# Altium footprint library KeystoneContacts.PcbLib: 22 footprints (part 1 of 2)
Each footprint in its own frame and in the unit in brackets; x right, y up, seen from the top. Pads: shape width x height; smd on the part's side, far side on the other; paste and mask are expansions set on the pad; w line width, h text height; cw(c..) or ccw(c..) is an arc to the next point about the centre after c.
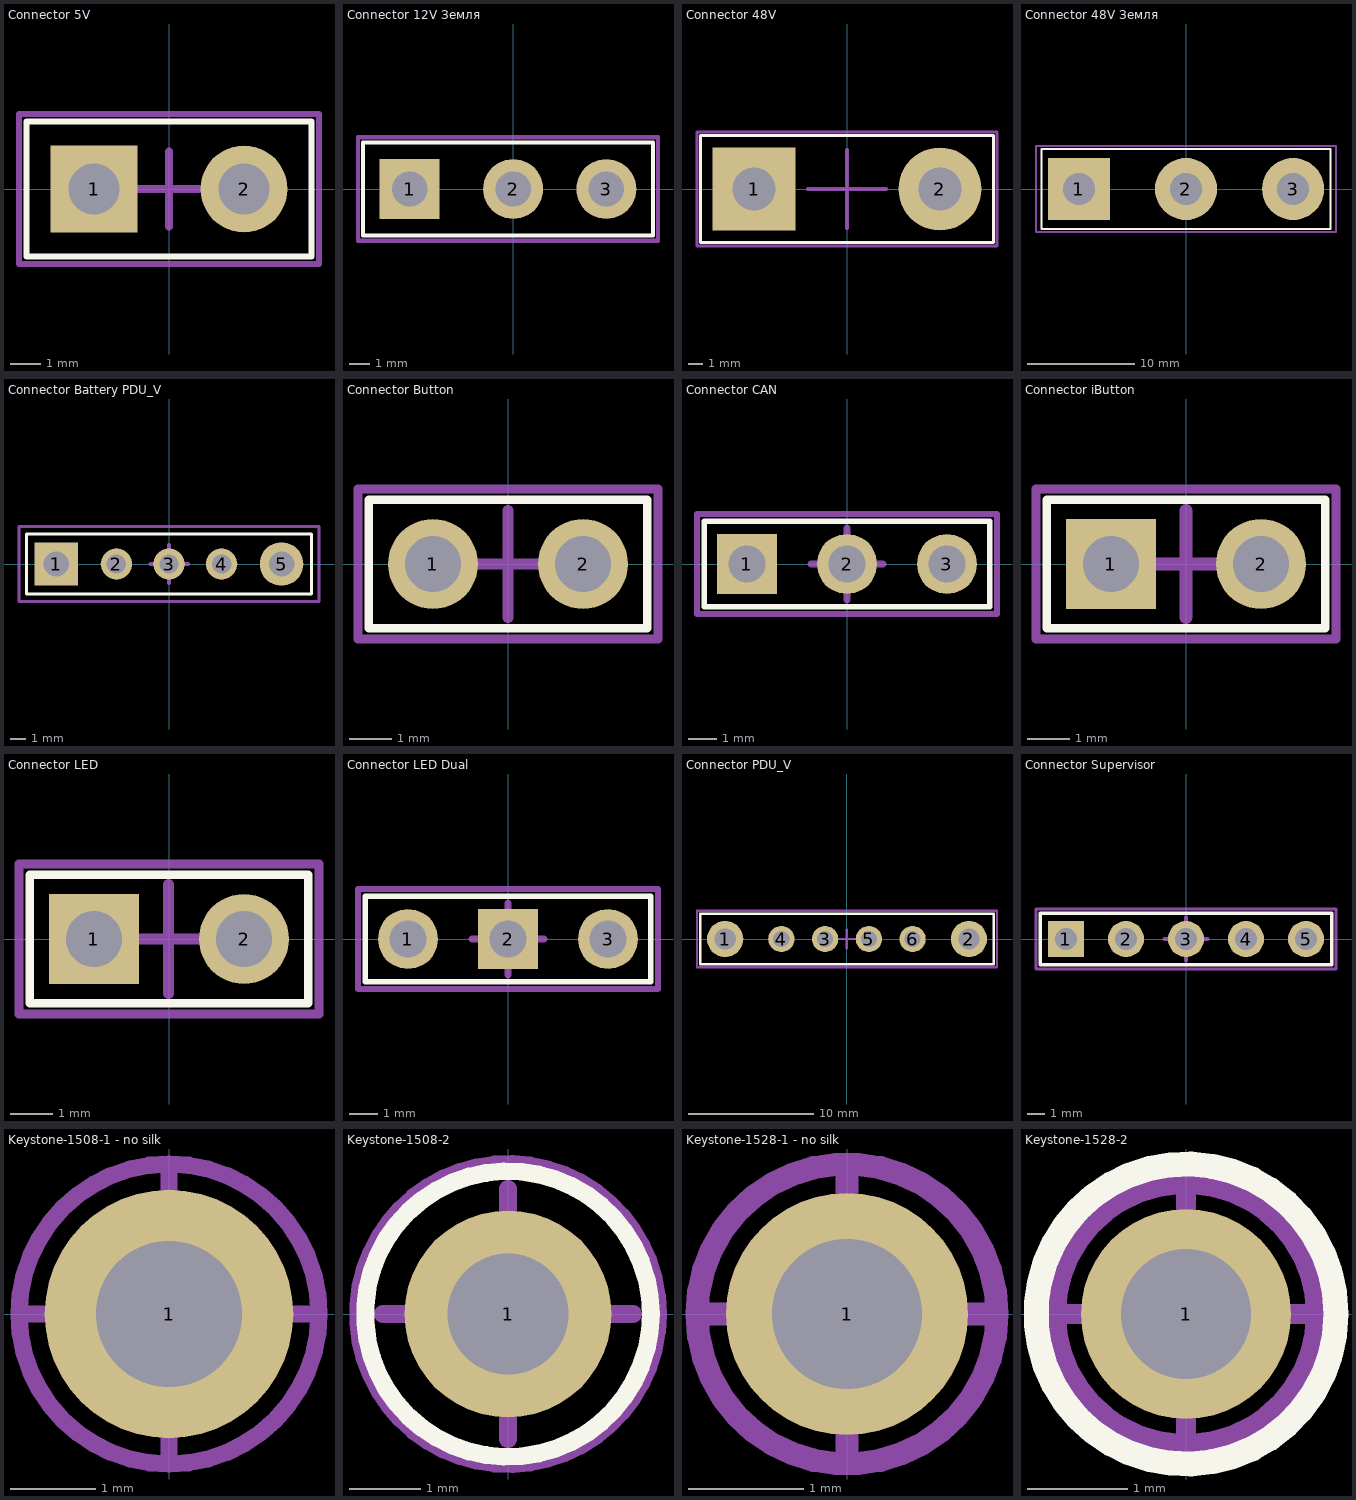
[diagram p0: the footprints below, top view; thin cyan lines are the x and y axes]

## Connector 5V [mm] "Контакты на плату турельные средние"
pads (2):
  rect 2.9x2.9 hole 1.7: 1(-2.5,0)
  round 2.9 hole 1.7: 2(2.5,0)
Top Overlay:
  lines w0.2: -4.75,-2.25 4.75,-2.25 4.75,2.25 -4.75,2.25 -4.75,-2.25
Mechanical 13:
  circle w0.1: c2.5,0 r1.195
  circle w0.1: c-2.5,0 r1.195
Mechanical 15:
  lines w0.2: -5,-2.5 -5,2.5 5,2.5 5,-2.5 -5,-2.5
  lines w0.254: -1.25,0 1.25,0 ; 0,-1.25 0,1.25
3D body "1508-2.stp": height 2.37, standoff -2.12, extent 1.305,-1.194 3.695,1.195
3D body "1508-2.stp": height 2.37, standoff -2.12, extent -3.695,-1.194 -1.305,1.195

## Connector 12V Земля [mm] "Контакты на плату турельные средние"
pads (3):
  rect 2.9x2.9 hole 1.7: 1(-5,0)
  round 2.9 hole 1.7: 2(0,0) 3(4.5,0)
Top Overlay:
  lines w0.2: -7.25,-2.25 -7.25,2.25 6.75,2.25 6.75,-2.25 -7.25,-2.25
Mechanical 13:
  circle w0.1: c-5,0 r1.195
  circle w0.1: c0,0 r1.195
  circle w0.1: c4.5,0 r1.195
Mechanical 15:
  lines w0.2: -7.5,-2.5 7,-2.5 7,2.5 -7.5,2.5 -7.5,-2.5
  lines w0.254: -1.25,0 1.25,0 ; 0,-1.25 0,1.25
3D body "1508-2.stp": height 2.37, standoff -2.12, extent -6.195,-1.194 -3.805,1.195
3D body "1508-2.stp": height 2.37, standoff -2.12, extent -1.195,-1.194 1.195,1.195
3D body "1508-2.stp": height 2.37, standoff -2.12, extent 3.305,-1.194 5.695,1.195

## Connector 48V [mm] "Контакты на плату турельные"
pads (2):
  rect 5.8x5.8 hole 3: 1(-6.5,0)
  round 5.8 hole 3: 2(6.5,0)
Top Overlay:
  lines w0.2: -10.25,-3.75 -10.25,3.75 10.25,3.75 10.25,-3.75 -10.25,-3.75
Mechanical 13:
  circle w0.1: c-6.5,0 r2.375
  circle w0.1: c6.5,0 r2.375
Mechanical 15:
  lines w0.2: -10.5,-4 -10.5,4 10.5,4 10.5,-4 -10.5,-4
  lines w0.254: -2.75,0 2.75,0 ; 0,-2.75 0,2.75
3D body "1532-2.stp": height 5.95, standoff -2.66, extent -8.875,-2.375 -4.125,2.375
3D body "1532-2.stp": height 5.95, standoff -2.66, extent 4.125,-2.375 8.875,2.375

## Connector 48V Земля [mm] "Контакты на плату турельные"
pads (3):
  rect 5.8x5.8 hole 3: 1(-10,0)
  round 5.8 hole 3: 2(0,0) 3(10,0)
Top Overlay:
  lines w0.2: -13.5,-3.75 -13.5,3.75 13.5,3.75 13.5,-3.75 -13.5,-3.75
Mechanical 13:
  circle w0.1: c-10,0 r2.375
  circle w0.1: c0,0 r2.375
  circle w0.1: c10,0 r2.375
Mechanical 15:
  lines w0.2: -14,-4 -14,4 14,4 14,-4 -14,-4
  lines w0.254: -2.75,0 2.75,0 ; 0,-2.75 0,2.75
3D body "1532-2.stp": height 5.95, standoff -2.66, extent -12.375,-2.375 -7.625,2.375
3D body "1532-2.stp": height 5.95, standoff -2.66, extent -2.375,-2.375 2.375,2.375
3D body "1532-2.stp": height 5.95, standoff -2.66, extent 7.625,-2.375 12.375,2.375

## Connector Battery PDU_V [mm] "Разъем батареи ПДУ-В"
pads (5):
  rect 2.9x2.9 hole 1.7: 1(-7.5,0)
  round 2.1 hole 1.3: 2(-3.5,0) 3(0,0) 4(3.5,0)
  round 2.9 hole 1.7: 5(7.5,0)
Top Overlay:
  lines w0.2: -9.5,-2 -9.5,2 9.5,2 9.5,-2 -9.5,-2
Mechanical 13:
  circle w0.1: c7.5,0 r1.195
  circle w0.1: c-7.5,0 r1.195
  circle w0.1: c0,0 r0.785
  circle w0.1: c3.5,0 r0.785
  circle w0.1: c-3.5,0 r0.785
Mechanical 15:
  lines w0.2: -10,-2.5 -10,2.5 10,2.5 10,-2.5 -10,-2.5
  lines w0.254: -1.242,0 1.27,0 ; 0,-1.27 0,1.27
3D body "1508-2.stp": height 2.37, standoff -2.12, extent 6.305,-1.194 8.695,1.195
3D body "1508-2.stp": height 2.37, standoff -2.12, extent -8.695,-1.194 -6.305,1.195
3D body "1528-2.stp": height 2.37, standoff -2.12, extent -0.785,-0.784 0.785,0.785
3D body "1528-2.stp": height 2.37, standoff -2.12, extent 2.715,-0.784 4.285,0.785
3D body "1528-2.stp": height 2.37, standoff -2.12, extent -4.285,-0.784 -2.715,0.785

## Connector Button [mm] "Контакты для кнопки"
pads (2):
  round 2.1 hole 1.3: 1(-1.75,0) 2(1.75,0)
Top Overlay:
  lines w0.2: -3.25,-1.5 -3.25,1.5 3.25,1.5 3.25,-1.5 -3.25,-1.5
Mechanical 13:
  circle w0.1: c-1.75,0 r0.785
  circle w0.1: c1.75,0 r0.785
Mechanical 15:
  lines w0.2: -3.5,-1.75 -3.5,1.75 3.5,1.75 3.5,-1.75 -3.5,-1.75
  lines w0.254: -1.25,0 1.25,0 ; 0,-1.25 0,1.25
3D body "1528-2.stp": height 2.36, standoff -2.13, extent -2.535,-0.784 -0.965,0.785
3D body "1528-2.stp": height 2.36, standoff -2.13, extent 0.965,-0.784 2.535,0.785

## Connector CAN [mm] "Контакты для CAN"
pads (3):
  rect 2.1x2.1 hole 1.3: 1(-3.5,0)
  round 2.1 hole 1.3: 2(0,0) 3(3.5,0)
Top Overlay:
  lines w0.2: -5,-1.5 -5,1.5 5,1.5 5,-1.5 -5,-1.5
Mechanical 13:
  circle w0.1: c3.5,0 r0.785
  circle w0.1: c-3.5,0 r0.785
  circle w0.1: c0,0 r0.785
Mechanical 15:
  lines w0.2: -5.25,-1.75 -5.25,1.75 5.25,1.75 5.25,-1.75 -5.25,-1.75
  lines w0.254: -1.25,0 1.25,0 ; 0,-1.25 0,1.25
3D body "1528-2.stp": height 2.36, standoff -2.13, extent -0.785,-0.784 0.785,0.785
3D body "1528-2.stp": height 2.36, standoff -2.13, extent -4.285,-0.784 -2.715,0.785
3D body "1528-2.stp": height 2.36, standoff -2.13, extent 2.715,-0.784 4.285,0.785

## Connector iButton [mm] "Контакты для iButton"
pads (2):
  rect 2.1x2.1 hole 1.3: 1(-1.75,0)
  round 2.1 hole 1.3: 2(1.75,0)
Top Overlay:
  lines w0.2: -3.25,-1.5 -3.25,1.5 3.25,1.5 3.25,-1.5 -3.25,-1.5
Mechanical 13:
  circle w0.1: c-1.75,0 r0.785
  circle w0.1: c1.75,0 r0.785
Mechanical 15:
  lines w0.2: -3.5,-1.75 -3.5,1.75 3.5,1.75 3.5,-1.75 -3.5,-1.75
  lines w0.3: -1.25,0 1.25,0 ; 0,-1.25 0,1.25
3D body "1528-2.stp": height 2.36, standoff -2.13, extent -2.535,-0.784 -0.965,0.785
3D body "1528-2.stp": height 2.36, standoff -2.13, extent 0.965,-0.784 2.535,0.785

## Connector LED [mm] "Контакты для светодиодов"
pads (2):
  rect 2.1x2.1 hole 1.3: 1(-1.75,0)
  round 2.1 hole 1.3: 2(1.75,0)
Top Overlay:
  lines w0.2: -3.25,-1.5 3.25,-1.5 3.25,1.5 -3.25,1.5 -3.25,-1.5
Mechanical 13:
  circle w0.1: c1.75,0 r0.785
  circle w0.1: c-1.75,0 r0.785
Mechanical 15:
  lines w0.2: -3.5,-1.75 3.5,-1.75 3.5,1.75 -3.5,1.75 -3.5,-1.75
  lines w0.254: -1.256,0 1.256,0 ; -0.014,-1.27 -0.014,1.27
3D body "1528-2.stp": height 2.37, standoff -2.12, extent 0.965,-0.784 2.535,0.785
3D body "1528-2.stp": height 2.37, standoff -2.12, extent -2.535,-0.784 -0.965,0.785

## Connector LED Dual [mm] "Контакты для светодиодов"
pads (3):
  round 2.1 hole 1.3: 1(-3.5,0) 3(3.5,0)
  rect 2.1x2.1 hole 1.3: 2(0,0)
Top Overlay:
  lines w0.2: -5,-1.5 5,-1.5 5,1.5 -5,1.5 -5,-1.5
Mechanical 13:
  circle w0.1: c3.5,0 r0.785
  circle w0.1: c0,0 r0.785
  circle w0.1: c-3.5,0 r0.785
Mechanical 15:
  lines w0.2: -5.25,-1.75 5.25,-1.75 5.25,1.75 -5.25,1.75 -5.25,-1.75
  lines w0.254: -1.25,0 1.25,0 ; 0,-1.25 0,1.25
3D body "1528-2.stp": height 2.36, standoff -2.13, extent 2.715,-0.784 4.285,0.785
3D body "1528-2.stp": height 2.36, standoff -2.13, extent -0.785,-0.784 0.785,0.785
3D body "1528-2.stp": height 2.36, standoff -2.13, extent -4.285,-0.784 -2.715,0.785

## Connector PDU_V [mm] "Разъем на ПДУ-В"
pads (6):
  round 2.9 hole 1.7: 1(-9.75,0) 2(9.75,0)
  round 2.1 hole 1.3: 3(-1.75,0) 4(-5.25,0) 5(1.75,0) 6(5.25,0)
Top Overlay:
  lines w0.2: -11.75,-2 11.75,-2 11.75,2 -11.75,2 -11.75,-2
Mechanical 13:
  circle w0.1: c5.25,0 r0.785
  circle w0.1: c1.75,0 r0.785
  circle w0.1: c-1.75,0 r0.785
  circle w0.1: c-5.25,0 r0.785
  circle w0.1: c9.75,0 r1.195
  circle w0.1: c-9.75,0 r1.195
Mechanical 15:
  lines w0.2: -0.75,0 0.75,0 ; 0,-0.75 0,0.75 ; -12,-2.25 -12,2.25 12,2.25 12,-2.25 -12,-2.25
3D body "1528-2.stp": height 2.37, standoff -2.12, extent 4.465,-0.784 6.035,0.785
3D body "1528-2.stp": height 2.37, standoff -2.12, extent 0.965,-0.784 2.535,0.785
3D body "1528-2.stp": height 2.37, standoff -2.12, extent -2.535,-0.784 -0.965,0.785
3D body "1528-2.stp": height 2.37, standoff -2.12, extent -6.035,-0.784 -4.465,0.785
3D body "1508-2.stp": height 2.37, standoff -2.12, extent 8.555,-1.194 10.945,1.195
3D body "1508-2.stp": height 2.37, standoff -2.12, extent -10.945,-1.194 -8.555,1.195

## Connector Supervisor [mm] "Контакты для технологического разъема"
pads (5):
  rect 2.1x2.1 hole 1.3: 1(-7,0)
  round 2.1 hole 1.3: 2(-3.5,0) 3(0,0) 4(3.5,0) 5(7,0)
Top Overlay:
  lines w0.2: -8.5,-1.5 -8.5,1.5 8.5,1.5 8.5,-1.5 -8.5,-1.5
Mechanical 13:
  circle w0.1: c0,0 r0.785
  circle w0.1: c-7,0 r0.785
  circle w0.1: c-3.5,0 r0.785
  circle w0.1: c3.5,0 r0.785
  circle w0.1: c7,0 r0.785
Mechanical 15:
  lines w0.2: -8.75,-1.75 -8.75,1.75 8.75,1.75 8.75,-1.75 -8.75,-1.75
  lines w0.254: -1.25,0 1.25,0 ; 0,-1.25 0,1.25
3D body "1528-2.stp": height 2.36, standoff -2.13, extent -7.785,-0.784 -6.215,0.785
3D body "1528-2.stp": height 2.36, standoff -2.13, extent -4.285,-0.784 -2.715,0.785
3D body "1528-2.stp": height 2.36, standoff -2.13, extent -0.785,-0.784 0.785,0.785
3D body "1528-2.stp": height 2.36, standoff -2.13, extent 2.715,-0.784 4.285,0.785
3D body "1528-2.stp": height 2.36, standoff -2.13, extent 6.215,-0.784 7.785,0.785

## Keystone-1508-1 - no silk [mm] "Средний"
height 2.36
pads (1):
  round 2.9 hole 1.7: 1(0,0)
Mechanical 13:
  circle w0.1: c0,0 r1.195
Mechanical 15:
  circle w0.2: c0,0 r1.75
  lines w0.2: -1.75,0 1.75,0 ; 0,-1.75 0,1.75
3D body "1508-1.stp": height 2.36, standoff -1.34, extent -1.19,-1.193 1.19,1.193

## Keystone-1508-2 [mm] "Средний"
height 2.36
pads (1):
  round 2.9 hole 1.7: 1(0,0)
Top Overlay:
  circle w0.25: c0,0 r2
Mechanical 13:
  circle w0.1: c0,0 r1.195
Mechanical 15:
  circle w0.25: c0,0 r2.1
  lines w0.254: -1.75,0 1.75,0 ; 0,-1.75 0,1.75
3D body "1508-2.stp": height 2.37, standoff -2.12, extent -1.195,-1.194 1.195,1.195

## Keystone-1528-1 - no silk [mm] "Самый тонкий без шелкографии"
height 2.36
pads (1):
  round 2.1 hole 1.3: 1(0,0)
Mechanical 13:
  circle w0.1: c0,0 r0.785
Mechanical 15:
  circle w0.2: c0,0 r1.3
  lines w0.2: -1.25,0 1.25,0 ; 0,-1.25 0,1.25
3D body "1528-1.stp": height 2.36, standoff -1.37, extent -0.782,-0.783 0.782,0.783

## Keystone-1528-2 [mm] "Самый тонкий"
height 2.36
pads (1):
  round 2.1 hole 1.3: 1(0,0)
Top Overlay:
  circle w0.25: c0,0 r1.5
Mechanical 13:
  circle w0.1: c0,0 r0.785
Mechanical 15:
  circle w0.2: c0,0 r1.3
  lines w0.2: -1.242,0 1.27,0 ; 0,-1.27 0,1.27
3D body "1528-2.stp": height 2.37, standoff -2.12, extent -0.785,-0.784 0.785,0.785